# Altium schematic symbol library 3214X-1-103E.SchLib: 1 symbol
Pins are listed as number, name and electrical type; pins without a type are passive.

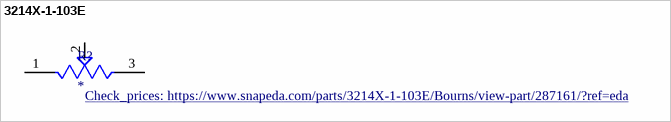
[diagram p0: symbol 3214X-1-103E]

## 3214X-1-103E
designator R?
10 kOhms 0.25W, 1/4W Gull Wing Surface Mount Trimmer Potentiometer Cermet 5 Turn Top Adjustment; MP: 3214X-1-103E; MF: Bourns; Package: 6432 Bourns; Availability: Good; Value: *; SnapEDA_Link: https://www.snapeda.com/parts/3214X-1-103E/Bourns/view-part/287161/?ref=snap; Price: None; Purchase-URL: https://pricing.snapeda.com/search/part/3214X-1-103E/?ref=eda; Check_prices: https://www.snapeda.com/parts/3214X-1-103E/Bourns/view-part/287161/?ref=eda
footprint TRIM_3214X-1-103E
pins: 1 CCW, 2 WIPER, 3 CW